# Altium schematic symbol library ACS758.SchLib: 1 symbol
Pins are listed as number, name and electrical type; pins without a type are passive.

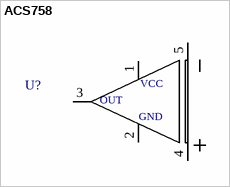
[diagram p0: symbol ACS758]

## ACS758
designator U?  (value not drawn)
footprint ACS758-100
pins: 1 +VCC, 2 GND, 3 OUT, 4 +IP, 5 -IP
text: VCC